# Altium integrated library pedals-regulators.IntLib: 15 symbols
Pins are listed as number, name and electrical type; pins without a type are passive.

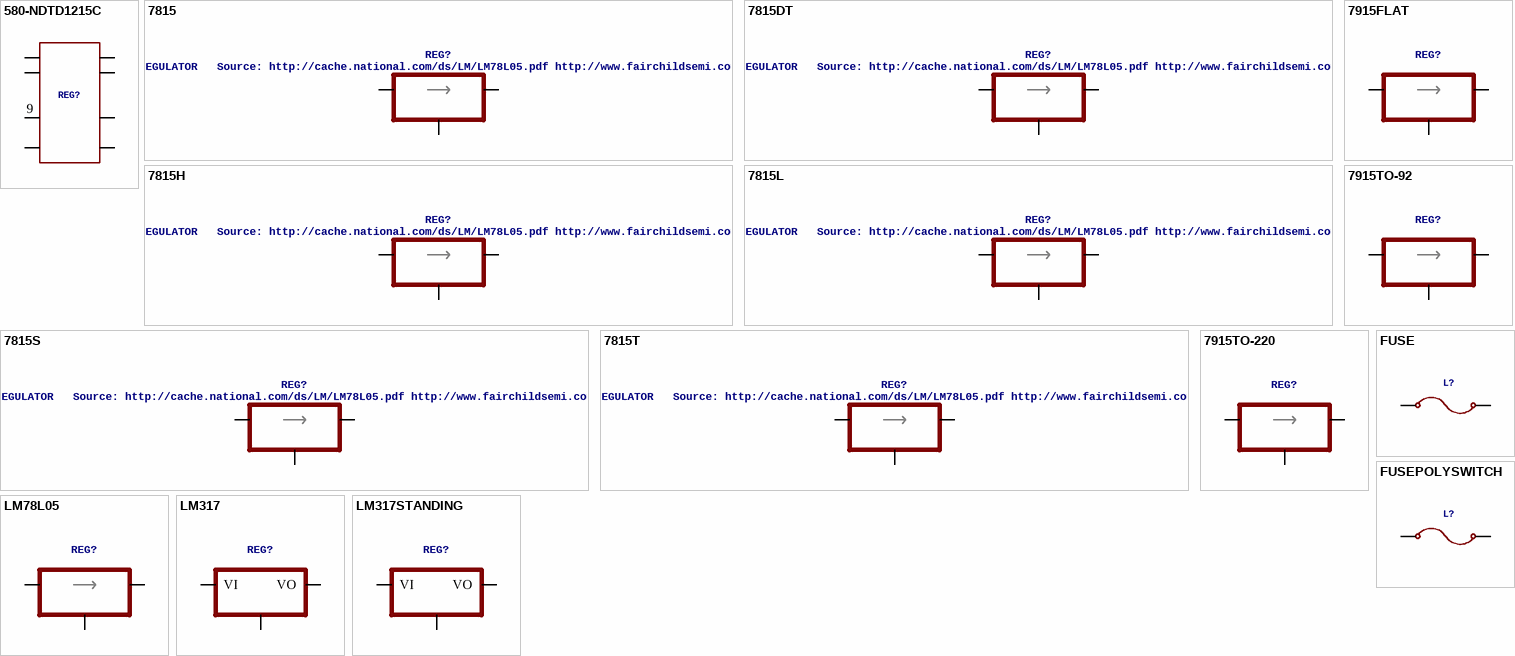
[diagram p0: symbols 580-NDTD1215C to LM317STANDING]

## 580-NDTD1215C
designator REG?
footprint 580-NDTD1215C
pins: 2 -VIN1, 3 -VIN2, 9 0V1, 11 0V2, 14 -VOUT, 16 +VOUT, 22 +VIN2, 23 +VIN1

## 7815
designator REG?, comment Positive VOLTAGE REGULATOR   Source: http://cache.national.com/ds/LM/LM78L05.pdf http://www.fairchildsemi.com/ds/LM/LM7805.pdf
footprint TO92-
pins: 1 VI, 2 GND, 3 VO

## 7815DT
designator REG?, comment Positive VOLTAGE REGULATOR   Source: http://cache.national.com/ds/LM/LM78L05.pdf http://www.fairchildsemi.com/ds/LM/LM7805.pdf
footprint TO252
pins: 1 VI, 2 VO, 3 GND

## 7815H
designator REG?, comment Positive VOLTAGE REGULATOR   Source: http://cache.national.com/ds/LM/LM78L05.pdf http://www.fairchildsemi.com/ds/LM/LM7805.pdf
footprint TO39
pins: 1 VI, 2 VO, 3 GND

## 7815L
designator REG?, comment Positive VOLTAGE REGULATOR   Source: http://cache.national.com/ds/LM/LM78L05.pdf http://www.fairchildsemi.com/ds/LM/LM7805.pdf
footprint TO92
pins: 1 VI, 2 GND, 3 VO

## 7815S
designator REG?, comment Positive VOLTAGE REGULATOR   Source: http://cache.national.com/ds/LM/LM78L05.pdf http://www.fairchildsemi.com/ds/LM/LM7805.pdf
footprint TO220-STANDING
pins: P$1 VI, P$2 GND, P$3 VO

## 7815T
designator REG?, comment Positive VOLTAGE REGULATOR   Source: http://cache.national.com/ds/LM/LM78L05.pdf http://www.fairchildsemi.com/ds/LM/LM7805.pdf
footprint TO220H
pins: 1 VI, 2 GND, 3 VO

## 7915FLAT
designator REG?
footprint TO220H
pins: 1 GND, 2 VI, 3 VO

## 7915TO-92
designator REG?
footprint TO92-
pins: 1 VO, 2 VI, 3 GND

## 7915TO-220
designator REG?
footprint TO220-STANDING
pins: P$1 GND, P$2 VI, P$3 VO

## FUSE
designator L?
footprint 20MM
pins: P$1, P$2

## FUSEPOLYSWITCH
designator L?
footprint 5MM
pins: 1 P$1, 2 P$2

## LM78L05
designator REG?
footprint TO92-
pins: 1 VI, 2 GND, 3 VO

## LM317
designator REG?
footprint TO220H
pins: 1 GND, 2 VO, 3 VI

## LM317STANDING
designator REG?
footprint TO220-STANDING
pins: P$1 GND, P$2 VO, P$3 VI